# EAGLE library part JST_SH_10-PIN_HORI (library tecsmith-jst)
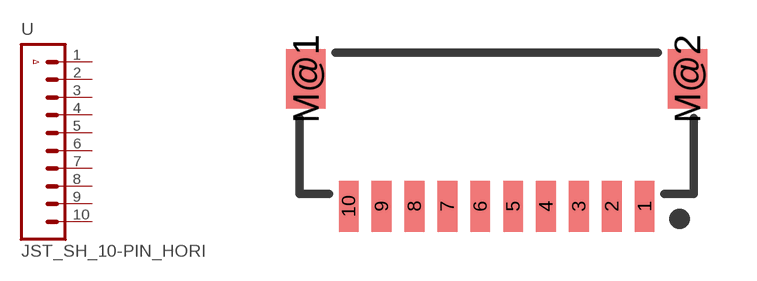
[diagram p1: symbol with the pads of JST-SH-10-SMD-HORI-1.0MM; footprint JST-SH-10-SMD-HORI-1.0MM]

Designator prefix -

## JST_SH_10-PIN_HORI  [JST-SH-10-SMD-HORI-1.0MM]
1  1  pas
2  2  pas
3  3  pas
4  4  pas
5  5  pas
6  6  pas
7  7  pas
8  8  pas
9  9  pas
10  10  pas
M@1  M  pas
M@2  M  pas

## Footprint JST-SH-10-SMD-HORI-1.0MM (pad centres in mm)
smd 0.6 x 1.55: 1 4.5,-2.775; 2 3.5,-2.775; 3 2.5,-2.775; 4 1.5,-2.775; 5 0.5,-2.775; 6 -0.5,-2.775; 7 -1.5,-2.775; 8 -2.5,-2.775; 9 -3.5,-2.775; 10 -4.5,-2.775
smd 1.2 x 1.8: M@1 -5.8,1.1; M@2 5.8,1.1